# EAGLE library part MAS3507 (library micronas)
MPEG3 DECODER
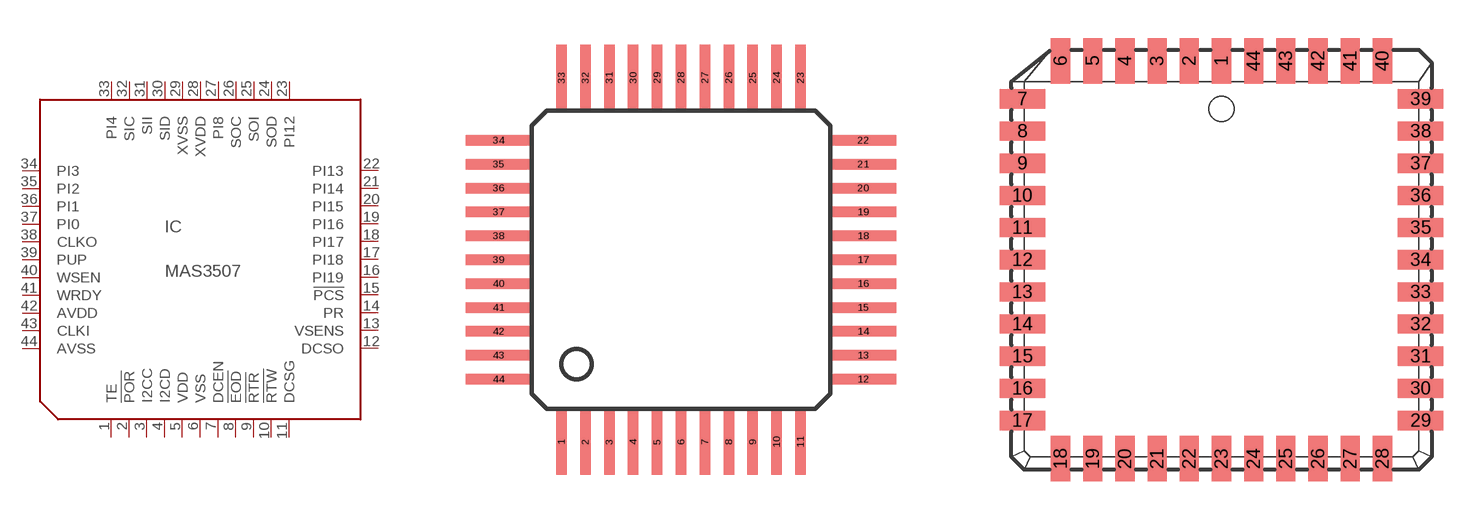
[diagram p2: symbol with the pads of MQFP44-2; footprints MQFP44-2, PLCC44]

Designator prefix IC

## MAS3507D (OC_FARNELL: unknown; OC_NEWARK: unknown)  [MQFP44-2]
1  TE  in
2  !POR  in
3  I2CC
4  I2CD
5  VDD  pwr
6  VSS  pwr
7  DCEN  in
8  !EOD  out
9  !RTR  out
10  !RTW  out
11  DCSG  pwr
12  DCSO  out
13  VSENS  in
14  PR  in
15  !PCS  in
16  PI19
17  PI18
18  PI17
19  PI16
20  PI15
21  PI14
22  PI13
23  PI12
24  SOD  out
25  SOI  out
26  SOC  out
27  PI8
28  XVDD  pwr
29  XVSS  pwr
30  SID  in
31  SII  in
32  SIC  in
33  PI4
34  PI3
35  PI2
36  PI1
37  PI0
38  CLKO  out
39  PUP  out
40  WSEN  in
41  WRDY  out
42  AVDD  pwr
43  CLKI  in
44  AVSS  pwr

## MAS3507J (OC_FARNELL: unknown; OC_NEWARK: unknown)  [PLCC44]
1  VSS  pwr
2  VDD  pwr
3  I2CD
4  I2CC
5  !POR  in
6  TE  in
7  AVSS  pwr
8  CLKI  in
9  AVDD  pwr
10  WRDY  out
11  WSEN  in
12  PUP  out
13  CLKO  out
14  PI0
15  PI1
16  PI2
17  PI3
18  PI4
19  SIC  in
20  SII  in
21  SID  in
22  XVSS  pwr
23  XVDD  pwr
24  PI8
25  SOC  out
26  SOI  out
27  SOD  out
28  PI12
29  PI13
30  PI14
31  PI15
32  PI16
33  PI17
34  PI18
35  PI19
36  !PCS  in
37  PR  in
38  VSENS  in
39  DCSO  out
40  DCSG  pwr
41  !RTW  out
42  !RTR  out
43  !EOD  out
44  DCEN  in

## Footprint MQFP44-2 (pad centres in mm)
Metric Quad Flat Pack
smd 0.35 x 2.2: 1 -4,-6.1; 2 -3.2,-6.1; 3 -2.4,-6.1; 4 -1.6,-6.1; 5 -0.8,-6.1; 6 0,-6.1; 7 0.8,-6.1; 8 1.6,-6.1; 9 2.4,-6.1; 10 3.2,-6.1; 11 4,-6.1; 23 4,6.1; 24 3.2,6.1; 25 2.4,6.1; 26 1.6,6.1; 27 0.8,6.1; 28 0,6.1; 29 -0.8,6.1; 30 -1.6,6.1; 31 -2.4,6.1; 32 -3.2,6.1; 33 -4,6.1
smd 2.2 x 0.35: 12 6.1,-4; 13 6.1,-3.2; 14 6.1,-2.4; 15 6.1,-1.6; 16 6.1,-0.8; 17 6.1,0; 18 6.1,0.8; 19 6.1,1.6; 20 6.1,2.4; 21 6.1,3.2; 22 6.1,4; 34 -6.1,4; 35 -6.1,3.2; 36 -6.1,2.4; 37 -6.1,1.6; 38 -6.1,0.8; 39 -6.1,0; 40 -6.1,-0.8; 41 -6.1,-1.6; 42 -6.1,-2.4; 43 -6.1,-3.2; 44 -6.1,-4

## Footprint PLCC44 (pad centres in mm)
PLASTIC LEADED CHIP CARRIER square
smd 0.76 x 1.8: 1 0,7.86; 2 -1.27,7.86; 3 -2.54,7.86; 4 -3.81,7.86; 5 -5.08,7.86; 6 -6.35,7.86; 18 -6.35,-7.86; 19 -5.08,-7.86; 20 -3.81,-7.86; 21 -2.54,-7.86; 22 -1.27,-7.86; 23 0,-7.86; 24 1.27,-7.86; 25 2.54,-7.86; 26 3.81,-7.86; 27 5.08,-7.86; 28 6.35,-7.86; 40 6.35,7.86; 41 5.08,7.86; 42 3.81,7.86; 43 2.54,7.86; 44 1.27,7.86
smd 1.8 x 0.76: 7 -7.86,6.35; 8 -7.86,5.08; 9 -7.86,3.81; 10 -7.86,2.54; 11 -7.86,1.27; 12 -7.86,0; 13 -7.86,-1.27; 14 -7.86,-2.54; 15 -7.86,-3.81; 16 -7.86,-5.08; 17 -7.86,-6.35; 29 7.86,-6.35; 30 7.86,-5.08; 31 7.86,-3.81; 32 7.86,-2.54; 33 7.86,-1.27; 34 7.86,0; 35 7.86,1.27; 36 7.86,2.54; 37 7.86,3.81; 38 7.86,5.08; 39 7.86,6.35